# Altium schematic symbol library BCD_Clock_SCH_lib.SchLib: 25 symbols
Pins are listed as number, name and electrical type; pins without a type are passive.

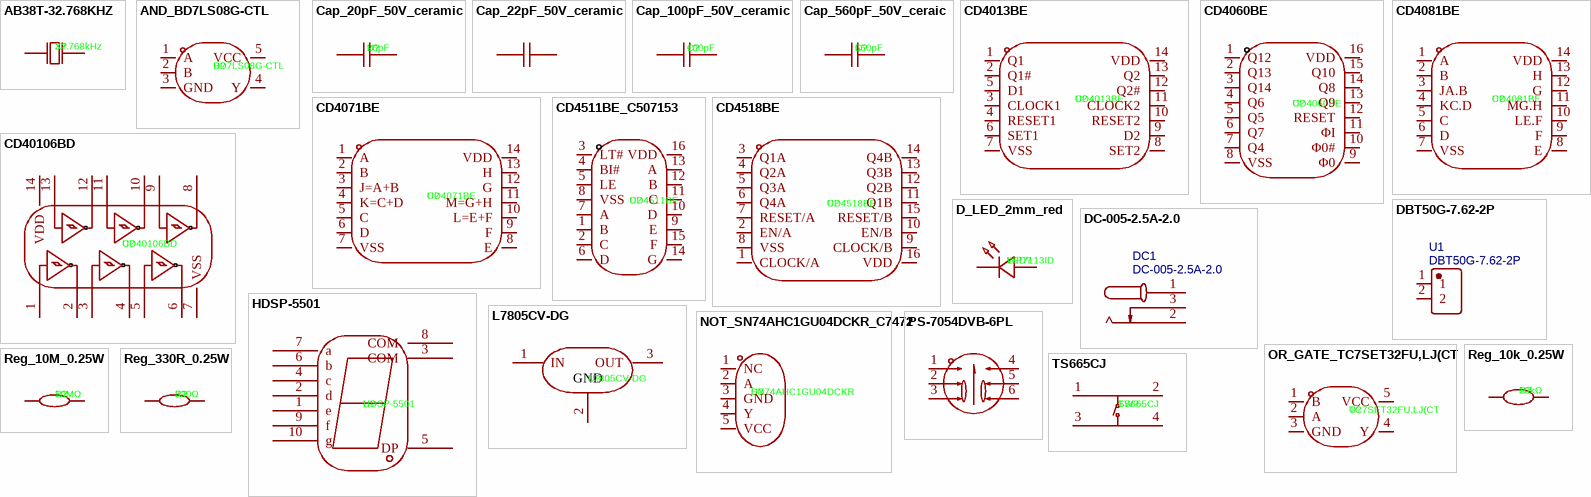
[diagram p0: symbols AB38T-32.768KHZ to TS665CJ]

## AB38T-32.768KHZ
designator X?, comment 32.768kHz
Manufacturer: ABRACON; Symbol: AB38T-32.768KHZ; Add into BOM: yes; Normal temperature Frequency Tolerance: ±20ppm; Equivalent Series Resistance (ESR): 30kΩ; Device: AB38T-32.768KHZ; LCSC Part Name: 32.768kHz ±20ppm 12.5pF; Supplier Part: C194002; Manufacturer Part: AB38T-32.768KHZ; Supplier Footprint: DT-38; JLCPCB Part Class: Extended Part; Datasheet: https://atta.szlcsc.com/upload/public/pdf/source/20180613/C194002_28532E064E51A8E79CA51D5C8B24387E.pdf; Supplier: LCSC; Convert to PCB: yes; Crystal Type: -; Value: 32.768kHz; Frequency Stability(Full temperature range): -
footprint OSC-TH_BD3.1-P0.8-D0.3
3D model OSC-TH_D3.0-W8.0-P0.8
pins: 1 OSC1, 2 OSC2

## AND_BD7LS08G-CTL
designator U?, comment BD7LS08G-CTL
Manufacturer: ROHM(罗姆); Add into BOM: yes; Logic Gate Type: 与门; Number of Channels: 1; Supply Voltage: 1.65V~5.5V; Quiescent Current (Max): 10uA; Sink Current: 32mA; Propagation Delay Time: 10ns@5V,50pF; Symbol: BD7LS08G-CTL; Device: BD7LS08G-CTL; LCSC Part Name: BD7LS08G-CTL; Supplier Part: C4471342; Manufacturer Part: BD7LS08G-CTL; Supplier Footprint: SSOP-5; JLCPCB Part Class: Extended Part; Supplier: LCSC; Convert to PCB: yes; Source Current: 32mA; Operating Temperature: -40℃~+125℃
footprint SSOP-5_L3.0-W1.6-P0.95-LS2.8-BR
3D model SSOP-5_L2.9-W1.6-H1.1-LS2.8-P0.95
pins: 1 A, 2 B, 3 GND, 4 Y, 5 VCC

## Cap_20pF_50V_ceramic
designator U?, comment 20pF
Manufacturer: VISHAY(威世); Symbol: 561R10TCCQ20; Add into BOM: yes; Tolerance: ±5%; φD: 7.4mm; Device: 561R10TCCQ20; LCSC Part Name: 20pF ±5% 1kV; Supplier Part: C1620425; Manufacturer Part: 561R10TCCQ20; Supplier Footprint: 插件,P=6.4mm; JLCPCB Part Class: Extended Part; Datasheet: https://atta.szlcsc.com/upload/public/pdf/source/20210612/D4F19C32863795EB44E265B28CDF13C9.pdf; Supplier: LCSC; Convert to PCB: yes; Value: 20pF; Lead Spacing: 6.4mm
footprint CAP-TH_L7.4-W4.0-P6.40-D0.5-S1.00
3D model CAP-TH_L7.4-W4.0-P6.40-D0.5-S1.00
pins: 1, 2

## Cap_22pF_50V_ceramic
designator C?, comment 22pF  (value not drawn)
Manufacturer: Dersonic(德尔创); Symbol: CC1H220KA1EDCH4B1100; Add into BOM: yes; Tolerance: ±10%; Voltage Rating: 50V; Pin Spacing: 2.54mm; Temperature Coefficient: NP0; Body Thickness: 2.4mm; Device: CC1H220KA1EDCH4B1100; LCSC Part Name: 22pF ±10% 50V; Supplier Part: C2832510; Manufacturer Part: CC1H220KA1EDCH4B1100; Supplier Footprint: 插件,P=2.54mm; JLCPCB Part Class: Extended Part; Datasheet: https://atta.szlcsc.com/upload/public/pdf/source/20211103/062C09467AB58979163D97626BAD0297.pdf; Supplier: LCSC; Convert to PCB: yes; Value: 22pF; Diameter: 4.8mm
footprint CAP-TH_L7.4-W4.0-P6.40-D0.5-S1.00
pins: 1, 2

## Cap_100pF_50V_ceramic
designator C?, comment 100pF
Manufacturer: SHM(南方宏明); Symbol: DCT101K20Y5PF6FJ5A0; Add into BOM: yes; Tolerance: ±10%; Voltage Rating: 50V; Pin Spacing: 5mm; Temperature Coefficient: Y5P; Device: DCT101K20Y5PF6FJ5A0; LCSC Part Name: 100pF ±10% 50V; Supplier Part: C2896026; Manufacturer Part: DCT101K20Y5PF6FJ5A0; Supplier Footprint: 插件,P=5mm; JLCPCB Part Class: Extended Part; Datasheet: https://atta.szlcsc.com/upload/public/pdf/source/20210929/C4FEE90C41821237A84737C21615A4EC.pdf; Supplier: LCSC; Convert to PCB: yes; Value: 100pF
footprint CAP-TH_L5.0-W3.0-P5.00-D0.6-S2.45
3D model CAP-TH_L5.0-W3.0-P5.00-D0.6-S2.45
pins: 1, 2

## Cap_560pF_50V_ceraic
designator C?, comment 560pF
Manufacturer: SHM(南方宏明); Symbol: DCC561J34SL F6FJ5A0; Add into BOM: yes; Tolerance: ±5%; Voltage Rating: 50V; Pin Spacing: 5mm; Temperature Coefficient: SL; Device: DCC561J34SL F6FJ5A0; LCSC Part Name: 560pF ±5% 50V; Supplier Part: C2896138; Manufacturer Part: DCC561J34SL F6FJ5A0; Supplier Footprint: 插件,P=5mm; JLCPCB Part Class: Extended Part; Datasheet: https://atta.szlcsc.com/upload/public/pdf/source/20210929/2675BE423E96B4772DBF330AE545E239.pdf; Supplier: LCSC; Convert to PCB: yes; Value: 560pF
footprint CAP-TH_L8.5-W3.0-P5.00-D0.6-S2.5
3D model CAP-TH_L8.5-W3.0-P5.00-D0.6-S2.5
pins: 1, 2

## CD4013BE
designator U?
Manufacturer: TI(德州仪器); Add into BOM: yes; Trigger Type: Rising Edge; Voltage - Supply: 3V~18V; Clock Frequency: 24MHz; Function: Positioning and resetting; Number of Elements: 2; Number of Bits per Element: 1; Output Type: Complementary Type; Propagation Delay: 90ns@15V,50pF; Current - Output Low(IOL): 6.8mA; Quiescent Current: 4uA; Input Capacitance: 5pF; Symbol: CD4013BE; Device: CD4013BE; LCSC Part Name: CD4013BE; Supplier Part: C5199; Manufacturer Part: CD4013BE; Supplier Footprint: DIP-14; JLCPCB Part Class: Extended Part; Datasheet: https://www.ti.com/cn/lit/gpn/cd4013b; Supplier: LCSC; Convert to PCB: yes; Type: D-Type; Series: 4000BSeries; Current - Output High(IOH): 6.8mA; Operating Temperature: -55℃~+125℃
footprint DIP-14_L19.2-W6.6-P2.54-LS10.9-BL
3D model DIP-14_L20.0-W6.7-H4.1-LS7.62-P2.54
pins: 1 Q1, 2 Q1#, 3 CLOCK1, 4 RESET1, 5 D1, 6 SET1, 7 VSS, 8 SET2, 9 D2, 10 RESET2, 11 CLOCK2, 12 Q2#, 13 Q2, 14 VDD

## CD4060BE
designator U?
Manufacturer: HGSEMI(华冠); Symbol: CD4060BE_C507159; Add into BOM: yes; Device: CD4060BE; LCSC Part Name: CMOS 14 级纹波进位二进制计数器/除法器和振荡器; Supplier Part: C507159; Manufacturer Part: CD4060BE; Supplier Footprint: DIP-16; JLCPCB Part Class: Extended Part; Datasheet: https://atta.szlcsc.com/upload/public/pdf/source/20200730/C507159_CD40804D6EEA04930EB86D9D2459BFCA.pdf; Supplier: LCSC; Convert to PCB: yes
footprint DIP-16_L19.8-W6.5-P2.54-LS7.6-BL
3D model DIP-16_L20.0-W6.4-H3.5-LS7.62-P2.54
pins: 1 Q12, 2 Q13, 3 Q14, 4 Q6, 5 Q5, 6 Q7, 7 Q4, 8 VSS, 9 Φ0, 10 Φ0#, 11 ΦI, 12 RESET, 13 Q9, 14 Q8, 15 Q10, 16 VDD

## CD4071BE
designator U?
Manufacturer: TI(德州仪器); Add into BOM: yes; Logic Type: ORGate; Number of Channels: 4; Voltage - Supply: 3V~18V; Quiescent Current: 1uA; Current - Output Low(IOL): 3.4mA; Input Logic Level - High: 3.5V~11V; Input Logic Level - Low: 1.5V~4V; Propagation Delay: 90ns@15V,50pF; Symbol: CD4071BE; Device: CD4071BE; LCSC Part Name: CD4071BE; Supplier Part: C5332; Manufacturer Part: CD4071BE; Supplier Footprint: DIP-14; JLCPCB Part Class: Extended Part; Datasheet: https://www.ti.com/cn/lit/gpn/cd4072b; Supplier: LCSC; Convert to PCB: yes; Current - Output High(IOH): 3.4mA; Series: 4000BSeries; Operating Temperature: -55℃~+125℃
footprint DIP-14_L19.2-W6.6-P2.54-LS10.9-BL
3D model DIP-14_L20.0-W6.7-H4.1-LS7.62-P2.54
pins: 1 A, 2 B, 3 J=A+B, 4 K=C+D, 5 C, 6 D, 7 VSS, 8 E, 9 F, 10 L=E+F, 11 M=G+H, 12 G, 13 H, 14 VDD

## CD4081BE
designator U?
Manufacturer: TI(德州仪器); Add into BOM: yes; Logic Type: With Door; Number of Channels: 4; Voltage - Supply: 3V~18V; Quiescent Current: 1uA; Current - Output Low(IOL): 3.4mA; Input Logic Level - High: 3.5V~11V; Input Logic Level - Low: 1.5V~4V; Propagation Delay: 90ns@15V,50pF; Symbol: CD4081BE; Device: CD4081BE; LCSC Part Name: CD4081BE; Supplier Part: C5205; Manufacturer Part: CD4081BE; Supplier Footprint: DIP-14; JLCPCB Part Class: Extended Part; Datasheet: https://www.ti.com/cn/lit/gpn/cd4081b; Supplier: LCSC; Convert to PCB: yes; Current - Output High(IOH): 3.4mA; Series: 4000BSeries; Operating Temperature: -55℃~+125℃
footprint PDIP-14_L19.3-W6.4-P2.54-LS7.6-BL
3D model PDIP-14_L19.3-W6.4-P2.54-LS7.6-BL
pins: 1 A, 2 B, 3 JA.B, 4 KC.D, 5 C, 6 D, 7 VSS, 8 E, 9 F, 10 LE.F, 11 MG.H, 12 G, 13 H, 14 VDD

## CD4511BE_C507153
designator U?, comment CD4511BE
Manufacturer: HGSEMI(华冠); Symbol: CD4511BE_C507153; Add into BOM: yes; Device: CD4511BE_C507153; LCSC Part Name: CMOS BCD 到 7 段 LED 锁存解码器驱动器; Supplier Part: C507153; Manufacturer Part: CD4511BE; Supplier Footprint: DIP-16; JLCPCB Part Class: Extended Part; Datasheet: https://atta.szlcsc.com/upload/public/pdf/source/20220513/69A3CD8936477BC6706446B8F2E34C07.pdf; Supplier: LCSC; Convert to PCB: yes
footprint DIP-16_L19.8-W6.5-P2.54-LS7.6-BL
3D model DIP-16_L20.0-W6.4-H3.5-LS7.62-P2.54
pins: 1 B, 2 C, 3 LT#, 4 BI#, 5 LE, 6 D, 7 A, 8 VSS, 9 E, 10 D, 11 C, 12 B, 13 A, 14 G, 15 F, 16 VDD

## CD4518BE
designator U?
Manufacturer: TI(德州仪器); Add into BOM: yes; Logic Type: BCDCounter; Direction: Rising Edge；Falling Edge; Voltage - Supply: 3V~18V; Number of Elements: 2; Reset: Asynchronous; Timing: Synchronous; Count Rate: 8MHz; Symbol: CD4518BE; Device: CD4518BE; LCSC Part Name: CD4518BE; Supplier Part: C5220; Manufacturer Part: CD4518BE; Supplier Footprint: DIP-16; JLCPCB Part Class: Extended Part; Datasheet: https://www.ti.com/cn/lit/gpn/cd4518b; Supplier: LCSC; Convert to PCB: yes; Operating Temperature: -55℃~+125℃
footprint DIP-16_L19.3-W6.4-P2.54-LS7.6-BL
3D model DIP-16_L19.3-W6.4-P2.54-LS7.6-BL
pins: 1 CLOCK/A, 2 EN/A, 3 Q1A, 4 Q2A, 5 Q3A, 6 Q4A, 7 RESET/A, 8 VSS, 9 CLOCK/B, 10 EN/B, 11 Q1B, 12 Q2B, 13 Q3B, 14 Q4B, 15 RESET/B, 16 VDD

## CD40106BD
designator U?
Manufacturer: Sungine(双竞集成); Add into BOM: yes; Voltage - Supply: 3V~15V; Symbol: CD40106BD; Device: CD40106BD; LCSC Part Name: CD40106BD; Supplier Part: C5274709; Manufacturer Part: CD40106BD; Supplier Footprint: DIP-14; JLCPCB Part Class: Extended Part; Datasheet: https://atta.szlcsc.com/upload/public/pdf/source/20221121/C630F697383E7B4ACBE828E93A631222.pdf; Supplier: LCSC; Convert to PCB: yes
footprint DIP-14_L19.1-W6.4-P2.54-LS7.6-BL
3D model DIP-14_L19.1-W6.4-P2.54-LS7.6-BL
pins: 1, 2, 3, 4, 5, 6, 7 VSS, 8, 9, 10, 11, 12, 13, 14 VDD

## D_LED_2mm_red
designator LED?, comment WP7113ID
Manufacturer: Kingbright; Add into BOM: yes; Emitted Color: Red; Forward Voltage (VF): 2V; Forward Current: 20mA; Dominant Wavelength: 617nm; Peak Wavelength: 627nm; Lens Color: Red Lens; Luminous Intensity: 40mcd; Viewing Angle: 30°; Symbol: WP7113ID; Device: WP7113ID; LCSC Part Name: WP7113ID; Supplier Part: C6926004; Manufacturer Part: WP7113ID; Supplier Footprint: 插件,D=5mm; JLCPCB Part Class: Extended Part; Datasheet: https://atta.szlcsc.com/upload/public/pdf/source/20241101/124CAE47E7911E6EBC0B1714F77DAFC6.pdf; Supplier: LCSC; Convert to PCB: yes
footprint LED-TH_BD5.0-P2.54-FD
3D model LED-TH_BD5.0-P2.54-FD
pins: 1 A, 2 K

## DBT50G-7.62-2P
designator U1
Manufacturer: DORABO(地博电气); Manufacturer Part: DBT50G-7.62-2P-BK-P; Contributor: LCSC; Supplier: LCSC; Supplier Part: C496127; JLCPCB Part Class: Extended Part; spicePre: U; spiceSymbolName: DBT50G-7.62-2P
footprint CONN-TH_2P-P7.62_L15.2-W16.7-EX4.2
pins: 1, 2

## DC-005-2.5A-2.0
designator DC1
Manufacturer: XKB Connection(中国星坤); Contributor: LCSC; Supplier: LCSC; Supplier Part: C319099; Manufacturer Part: DC-005-2.5A-2.0; JLCPCB Part Class: Extended Part; spicePre: D; spiceSymbolName: DC-005-2.5A-2.0
footprint CONN-TH_DC-005-2.5A-2.0
pins: 1, 2, 3

## HDSP-5501
designator U?
Manufacturer: Broadcom/AVAGO(安华高); Symbol: HDSP-5501_C18198807; Add into BOM: yes; Device: HDSP-5501_C18198807; LCSC Part Name: HDSP-5501; Supplier Part: C18198807; Manufacturer Part: HDSP-5501; Supplier Footprint: 插件; JLCPCB Part Class: Extended Part; Datasheet: https://atta.szlcsc.com/upload/public/pdf/source/20230925/D6197A9C41D1E502B523821274CC57EA.pdf; Supplier: LCSC; Convert to PCB: yes
footprint LED-SEG-TH_HDSP-A
3D model LED-SEG-TH_HDSP-A
pins: 1 e, 2 d, 3 COM, 4 c, 5 DP, 6 b, 7 a, 8 COM, 9 f, 10 g

## L7805CV-DG
designator U?
Manufacturer: ST(意法半导体); Add into BOM: yes; Output Type: Fixed; Maximum Input Voltage: 35V; Output Voltage: 5V; Output Current: 1.5A; Power Supply Rejection Ratio (PSRR): 62dB@(120Hz); Dropout Voltage: 2V@(1A); standby current: 8mA; Output Polarity: Positive electrode; Number of Outputs: 1; Symbol: L7805CV-DG; Device: L7805CV-DG; LCSC Part Name: 正稳压器IC; Supplier Part: C3795; Manufacturer Part: L7805CV-DG; Supplier Footprint: TO-220; JLCPCB Part Class: Extended Part; Datasheet: https://atta.szlcsc.com/upload/public/pdf/source/20140724/1457707163191.pdf; Supplier: LCSC; Convert to PCB: yes; Feature: Short-Circuit  Protection；Thermal Protection(TSD)；Overcurrent Protection(OCP); Operating Temperature: 0℃~+125℃
footprint TO-220-3_L10.0-W4.5-P2.54-L
3D model TO-220-3_L10.0-W4.5-P2.54-L
pins: 1 IN, 2 GND, 3 OUT

## NOT_SN74AHC1GU04DCKR_C7472
designator U?, comment SN74AHC1GU04DCKR
Manufacturer: TI(德州仪器); Symbol: SN74AHC1GU04DCKR_C7472; Add into BOM: yes; Supply Voltage(Single): 2V~5.5V; Supply Current (Max): 1uA; Number of Circuits: 1; Sink Current: 8mA; High level range (VIH): 1.7V~4.4V; Low level range (VIL): 300mV~1.1V; Max Propagation Delay: 7ns@5V,50pF; Device: SN74AHC1GU04DCKR_C7472; LCSC Part Name: 单路反相器; Supplier Part: C7472; Manufacturer Part: SN74AHC1GU04DCKR; Supplier Footprint: SOT-353; JLCPCB Part Class: Extended Part; Datasheet: https://www.ti.com/cn/lit/gpn/sn74ahc1gu04; Supplier: LCSC; Convert to PCB: yes; Input Type: -; Number of Inputs: 1; Source Current: 8mA; Series: 74AHCSeries; Operating Temperature: -40℃~+85℃
footprint SOT-353_L2.1-W1.3-P0.65-LS2.3-BR
3D model SOT-353-5P_L2.0-W1.3-H1.1-LS2.0-P0.65
pins: 1 NC, 2 A, 3 GND, 4 Y, 5 VCC

## OR_GATE_TC7SET32FU,LJ(CT
designator U?, comment TC7SET32FU,LJ(CT
Manufacturer: TOSHIBA(东芝); Add into BOM: yes; Logic Gate Type: ORGate; Number of Channels: 1; Supply Voltage: 4.5V~5.5V; Quiescent Current (Max): 2uA; Sink Current: 8mA; High Level Range (VIH): 2V; Low Level Range (VIL): 800mV; Propagation Delay Time: 9ns@5V,50pF; Symbol: TC7SET32FU,LJ(CT; Device: TC7SET32FU,LJ(CT; LCSC Part Name: TC7SET32FU,LJ(CT; Supplier Part: C7360615; Manufacturer Part: TC7SET32FU,LJ(CT; Supplier Footprint: SSOP-5; JLCPCB Part Class: Extended Part; Datasheet: https://atta.szlcsc.com/upload/public/pdf/source/231023/inline-d04b01c8ac5c233d4c0f3d416dbdd867.pdf; Supplier: LCSC; Convert to PCB: yes; Source Current: 8mA; Series: TC7SETSeries; Operating Temperature: -40℃~+85℃
footprint TSSOP-5_L2.0-W1.3-P0.65-LS2.1-BR
3D model TSSOP-5_L2.0-W1.3-P0.65-LS2.1-BR
pins: 1 B, 2 A, 3 GND, 4 Y, 5 VCC

## PS-7054DVB-6PL
designator U?  (value not drawn)
Manufacturer: G-Switch(品赞); Add into BOM: yes; Self Lock / No Lock: LATCHING; Operating Force: 250gf; Symbol: PS-7054DVB-6PL; Device: PS-7054DVB-6PL; LCSC Part Name: 7*7自锁按键开关; Supplier Part: C22363819; Manufacturer Part: PS-7054DVB-6PL; Supplier Footprint: 插件-6P,7x7mm; JLCPCB Part Class: Extended Part; Datasheet: https://atta.szlcsc.com/upload/public/pdf/source/20240319/F2B7FB2723231C6F1D5F9BB35EBA5342.pdf; Supplier: LCSC; Convert to PCB: yes
footprint SW-TH_6P-L7.0-W7.0-P2.00
3D model SW-TH_6P-L7.0-W7.0-P2.00
pins: 1, 2, 3, 4, 5, 6

## Reg_10k_0.25W
designator R?, comment 10kΩ
Manufacturer: Tyohm(幸亚电阻); Symbol: RN 1/4W 10K F T/B A1; Device: RN1/4W10KFT/BA1; Add into BOM: yes; Tolerance: ±1%; Overload Voltage (Max): 250V; Power(Watts): 250mW; Temperature Coefficient: ±50ppm/℃; LCSC Part Name: 10kΩ ±1% 250mW 金属膜电阻; Supplier Part: C410695; Manufacturer Part: RN1/4W10KFT/BA1; Supplier Footprint: 插件,D2.4xL6.5mm; JLCPCB Part Class: Extended Part; Datasheet: https://atta.szlcsc.com/upload/public/pdf/source/20190808/C410699_D126E64D28B638F1D73B58E9F61DFD9B.pdf; Supplier: LCSC; Convert to PCB: yes; Type: Metal Film Resistors; Value: 10kΩ; Operating Temperature Range: -55℃~+125℃
footprint RES-TH_BD2.4-L6.3-P10.30-D0.6
3D model RES-TH_BD2.4-L6.3-P10.30-D0.6
pins: 1, 2

## Reg_10M_0.25W
designator R?, comment 10MΩ
Manufacturer: CCO(千志电子); Symbol: CF1/4W-10MΩ±5%; Device: CF1/4W-10MΩ±5% T; Add into BOM: yes; Tolerance: ±5%; Voltage-Supply(Max): 250V; Power(Watts): 250mW; Temperature Coefficient: -1500ppm/℃~0ppm/℃; LCSC Part Name: 10MΩ ±5% 250mW 碳膜电阻; Supplier Part: C127261; Manufacturer Part: CF1/4W-10MΩ±5% T; Supplier Footprint: 插件,D2.3xL6.5mm; JLCPCB Part Class: Extended Part; Datasheet: https://atta.szlcsc.com/upload/public/pdf/source/20190910/C427328_A0A2D65F3FD547937F4E674C90868175.pdf; Supplier: LCSC; Convert to PCB: yes; Type: Carbon Resister; Value: 10MΩ; Operating Temperature: -55℃~+155℃
footprint RES-TH_BD2.2-L6.5-P10.50-D0.6
3D model RES-TH_BD2.2-L6.5-P10.50-D0.6
pins: 1, 2

## Reg_330R_0.25W
designator R?, comment 330Ω
Manufacturer: CCO(千志电子); Symbol: MF1/4W-330Ω±1% T52; Device: MF1/4W-330Ω±1% T; Add into BOM: yes; Tolerance: ±1%; Voltage-Supply(Max): 250V; Power(Watts): 250mW; Temperature Coefficient: ±100ppm/℃; LCSC Part Name: 330Ω ±1% 250mW 金属膜电阻; Supplier Part: C119313; Manufacturer Part: MF1/4W-330Ω±1% T; Supplier Footprint: 插件,D2.3xL6.5mm; JLCPCB Part Class: Extended Part; Datasheet: https://atta.szlcsc.com/upload/public/pdf/source/20190910/C427326_62A6D058BC0FF74963A2F22379CA06CE.pdf; Supplier: LCSC; Convert to PCB: yes; Type: Metal Film Resistors; Value: 330Ω; Operating Temperature: -55℃~+155℃
footprint RES-TH_BD2.3-L6.5-P10.50-D0.5
3D model RES-TH_D2.3-L6.5-P10.50
pins: 1, 2

## TS665CJ
designator SW?
Manufacturer: SHOU HAN(首韩); Add into BOM: yes; Circuit: SPST; Actuator Style: Round Button; Switch Length: 6mm; Switch Height: 5mm; Contact Current: 50mA; Voltage Rating (DC): 12V; Symbol: TS665CJ; Device: TS665CJ; LCSC Part Name: 6*6*5mm 直插 轻触开关; Supplier Part: C393938; Manufacturer Part: TS665CJ; Supplier Footprint: 插件; JLCPCB Part Class: Extended Part; Datasheet: https://atta.szlcsc.com/upload/public/pdf/source/20190521/C393938_BDABEAC600B4C55E200A80AA129B70BC.pdf; Supplier: LCSC; Convert to PCB: yes; Mounting Style: Straight; Switch Width: 6mm; With Lamp: -; Mechanical Life: -
footprint SW-TH_4P-L6.0-W6.0-P4.50-LS6.5
3D model SW-TH_4P-L6.0-W6.0-H5.0-LS6.5-P4.50
pins: 1 A, 2 B, 3 C, 4 D